# Altium integrated library Logic_Gates.IntLib: 2 symbols
Pins are listed as number, name and electrical type; pins without a type are passive.

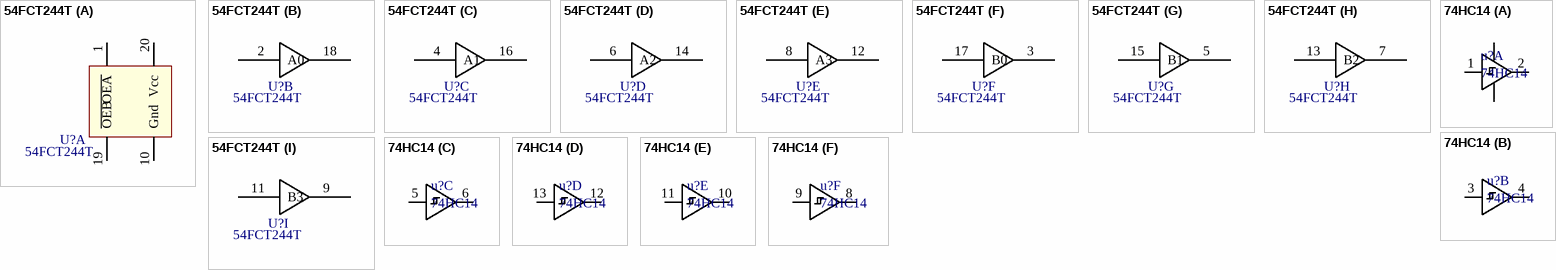
[diagram p0: symbols 54FCT244T to 74HC14]

## 54FCT244T
designator U?
footprint SOIC127P1030X265-20M (SOIC, 20-Leads, Body 12,80x7,50mm, Pitch 1,27mm, IPC Low Density)
part A pins: 1 ~{OEA}, 10 Gnd, 19 ~{OEB}, 20 Vcc
part B pins: 2 A0, 18 3
part C pins: 4 A1, 16 22
part D pins: 6 A2, 14 22
part E pins: 8 A3, 12 22
part F pins: 3 22, 17 B0
part G pins: 5 22, 15 B1
part H pins: 7 22, 13 B2
part I pins: 9 22, 11 B3

## 74HC14
designator u?
NOT wit Schmitt Trigger
footprint N14
part A pins: 1 10, 2 10, 7 10, 14 10
part B pins: 3 10, 4 10
part C pins: 5 10, 6 10
part D pins: 12 10, 13 10
part E pins: 10, 11 10
part F pins: 8 10, 9 10